# EAGLE library part PA6H_GPS (library CDC Library v105)
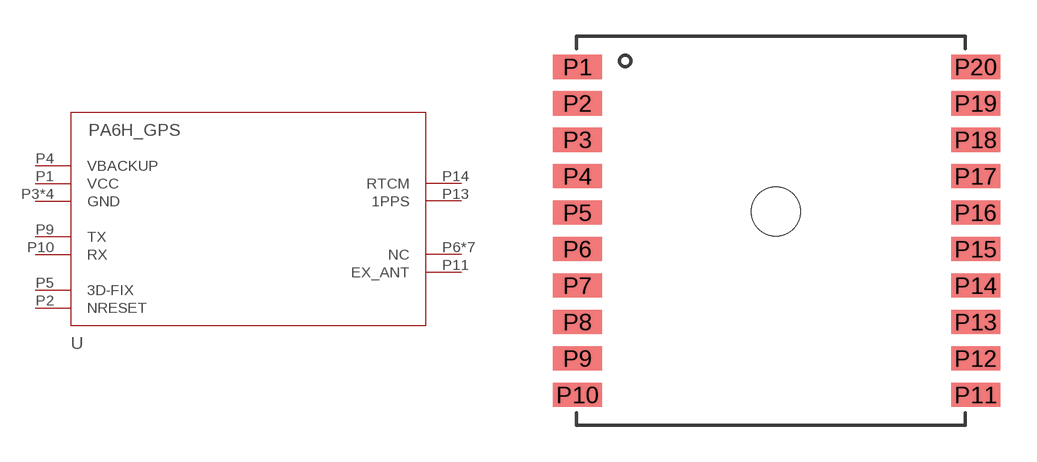
[diagram p1: symbol with the pads of PA6H_GPS-MODULE_20PIN; footprint PA6H_GPS-MODULE_20PIN]

Designator prefix -

## PA6H_GPS  [PA6H_GPS-MODULE_20PIN]
P1  VCC  pwr
P2  NRESET
P3  GND  pwr
P4  VBACKUP  pwr
P5  3D-FIX
P6  NC  nc
P7  NC  nc
P8  GND  pwr
P9  TX  out
P10  RX  in
P11  EX_ANT
P12  GND  pwr
P13  1PPS
P14  RTCM
P15  NC  nc
P16  NC  nc
P17  NC  nc
P18  NC  nc
P19  GND  pwr
P20  NC  nc

## Footprint PA6H_GPS-MODULE_20PIN (pad centres in mm)
smd 2 x 1: P1 -7.96,6.75; P2 -7.96,5.25; P3 -7.96,3.75; P4 -7.96,2.25; P5 -7.96,0.75; P6 -7.96,-0.75; P7 -7.96,-2.25; P8 -7.96,-3.75; P9 -7.96,-5.25; P10 -7.96,-6.75; P11 8.42,-6.75; P12 8.42,-5.25; P13 8.42,-3.75; P14 8.42,-2.25; P15 8.42,-0.75; P16 8.42,0.75; P17 8.42,2.25; P18 8.42,3.75; P19 8.42,5.25; P20 8.42,6.75
hole 2 at 0.2,0.8